# Altium integrated library TIDA-01415.IntLib: 74 symbols (part 1 of 2)
Pins are listed as number, name and electrical type; pins without a type are passive.

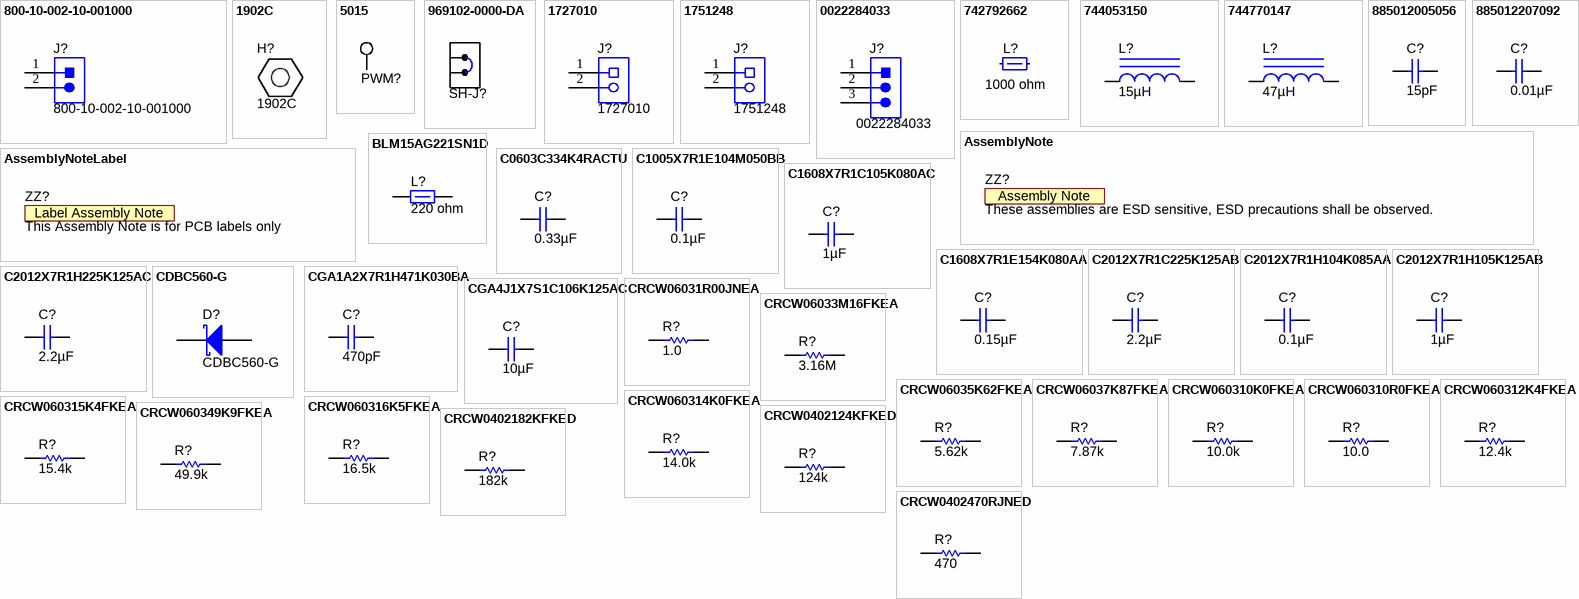
[diagram p0: symbols 800-10-002-10-001000 to CRCW0402470RJNED]

## 800-10-002-10-001000
designator J?
Header, 100mil, 2x1, TH; Manufacturer: Mill-Max; SymbolCreator: a0412235; SymbolVersion: 2013-10-31; PartNumber: 800-10-002-10-001000; PackageReference: Header, 2x1, 100mil, TH; ClassName: Header; CompType: Header; RoHS: Y; MountType: TH; ComponentLink1Description: Datasheet URL; ComponentLink1URL: http://www.mill-max.com/assets/pdfs/054.PDF; Publisher: Texas Instruments; LatestRevisionDate: 2017-02-06; Supplier 1: Digi-Key; Supplier Part Number 1: ED7202-ND
footprint Mill-Max_800-10-002-10-001000
footprint Mill-Max_800-10-002-10-001000_Socket
pins: 1, 2
1 alternate drawing of the same symbol

## 1902C
designator H?
Standoff, Hex, 0.5"L #4-40 Nylon; Manufacturer: Keystone; CompType: Hardware; MountType: N/A; RoHS: Y; PartNumber: 1902C; PackageReference: Standoff; ComponentLink1Description: Datasheet Link; ComponentLink1URL: http://www.keyelco.com/pdfs/M55-prod31.pdf; Alternate Manufacturer: -; Alternate PartNumber: -; LatestRevisionDate: 2012-06-27; LatestRevisionNote: Initial Version; Publisher: Texas Instruments; Supplier 1: Digi-Key; Supplier Part Number 1: 1902CK-ND
footprint Keystone_1902C

## 5015
designator PWM?  (value not drawn)
Test Point, Miniature, SMT; Manufacturer: Keystone; CompType: Test Point Loop; SymbolVersion: 2008-07-10; PartNumber: 5015; PackageReference: Testpoint_Keystone_Miniature; RoHS: Y; MountType: SMT; ComponentLink1Description: Datasheet URL; ComponentLink1URL: http://www.keyelco.com/userAssets/store/files/5015.PDF; Publisher: Texas Instruments; LatestRevisionDate: 2017-01-19; Supplier 1: Digi-Key; Supplier Part Number 1: 36-5015TR-ND; Supplier 2: Mouser; Supplier Part Number 2: 534-5015
footprint Testpoint_Keystone_Miniature
pins: 1

## 969102-0000-DA
designator SH-J?  (value not drawn)
Shunt, 100mil, Gold plated, Black; Manufacturer: 3M; Alternate Manufacturer: Samtec; Alternate PartNumber: SNT-100-BK-G; Value: 1x2; Note: You can "mate" this to a header by matching the designator.  i.e. use SH-J3 for header J3; ClassName: Shunt; CompType: Shunt; PartNumber: 969102-0000-DA; RoHS: Y; PackageReference: Shunt; MountType: N/A; ComponentLink1Description: Datasheet Link; ComponentLink1URL: http://multimedia.3m.com/mws/mediawebserver?66666UuZjcFSLXTtNxTElXf6EVuQEcuZgVs6EVs6E666666--; Publisher: Texas Instruments; LatestRevisionDate: 2017-02-01; Supplier 1: Digi-Key; Supplier Part Number 1: 3M9580-ND; Supplier 2: Newark; Supplier 3: Mouser; Supplier Part Number 3: 517-9691020000DA
footprint SNT-100-BK-G

## 1727010
designator J?
Conn Term Block, 2POS, 3.81mm, TH; Manufacturer: Phoenix Contact; SymbolCreator: a0412235; CompType: Terminal Block; SymbolVersion: 2013-09-04; PartNumber: 1727010; PackageReference: 2POS Terminal Block; RoHS: Y; MountType: TH; ComponentLink1Description: Datasheet URL; ComponentLink1URL: http://eshop.phoenixcontact.com/phoenix/pdf.do?UID=1727010&general=usen; Publisher: Texas Instruments; LatestRevisionDate: 2017-01-19; Supplier 1: Digi-Key; Supplier Part Number 1: 277-1947-ND
footprint PhoenixConact_1727010
pins: 1, 2

## 1751248
designator J?
Conn Term Block, 2POS, 3.5mm, TH; Manufacturer: Phoenix Contact; SymbolCreator: a0412235; CompType: Terminal Block; SymbolVersion: 2013-09-04; PartNumber: 1751248; PackageReference: 11x8.5x7.3mm; RoHS: Y; MountType: TH; ComponentLink1Description: Datasheet URL; ComponentLink1URL: https://sps06.itg.ti.com/sites/KMS/crossdivteams/altium/docs/ComponentDatasheets/PhoenixContact_1751248.pdf; Publisher: Texas Instruments; LatestRevisionDate: 2016-09-28; Supplier 1: Digi-Key; Supplier Part Number 1: 277-5719-ND; Supplier 2: Mouser; Supplier Part Number 2: 651-1751248
footprint CONN_1751248
pins: 1, 2

## 0022284033
designator J?
Header, 2.54mm, 3x1, Tin, TH; Manufacturer: Molex; SymbolCreator: a0799628; Pitch_mm: 2.54; Gender: Male; Shrouded: N; Row_Count: 1; Current_A: 4; Voltage_V: 250; Cert_UL: Y; SymbolVersion: 2013-03-28; PartNumber: 0022284033; PackageReference: Header, 2.54mm, 3x1, TH; ClassName: Header; CompType: Header; RoHS: Y; MountType: TH; ComponentLink1Description: Datasheet URL; ComponentLink1URL: http://www.molex.com/pdm_docs/sd/022284033_sd.pdf; Orientation: Vertical; PinCount: 3; ContactFinish: Tin; Color: Black; Publisher: Texas Instruments; LatestRevisionDate: 2016-10-04; Supplier 1: Digi-Key; Supplier Part Number 1: WM50016-03-ND
footprint Molex_0022284033
pins: 1, 2, 3
3 alternate drawings of the same symbol

## 742792662
designator L?  value 1000 ohm  (hidden comment: 742792662)
Ferrite Bead, 1000 ohm @ 100 MHz, 0.6 A, 0603; Manufacturer: Wurth Elektronik; Imax_A: 0.6; DCR_ohm: 0.3; Value1: 0.3 ohm; Value2: 0.6A; ZTyp@100MHz_Ohm: 1000; CompType: Ferrite Bead; SymbolVersion: 2009-06-02; PartNumber: 742792662; MountType: SMT; PackageReference: 0603; Published: 2014-04-30; Publisher: Texas Instruments; LatestRevisionDate: 2016-10-02; ComponentLink1Description: Datasheet link; ComponentLink1URL: http://katalog.we-online.de/pbs/datasheet/742792662.pdf; RoHS: Y; Supplier 1: Digi-Key; Supplier Part Number 1: 732-4670-1-ND; Supplier 2: Mouser; Supplier Part Number 2: 710-742792662
footprint 0603
footprint 0603M
footprint 0603L
footprint 0603_HV
footprint 0603S
pins: 1, 2

## 744053150
designator L?  ValueDisplayed: 15µH  (hidden comment: 744053150)
Inductor, Shielded Drum Core, Ferrite, 15 µH, 1.15 A, 0.07 ohm, SMD; Manufacturer: Wurth Elektronik; Value: 15uH; Ind_H: 15.0E-6; Imax_A: 1.15; Irms: 1.38A @ 30C rise; Isat: 1.15A @ 35% inductance drop; DCR_ohm: 0.07; Value2: 1.15A; SizeAreaWB_mm2: 60.84; SizeArea_mm2: 33.64; SizeX_mm: 5.8; SizeZ_mm: 2.8; AEC Category: Q200; SymbolVersion: 2008-07-23; CompType: Inductor; PartNumber: 744053150; Value1: 0.07 ohm; Technology: Shielded Drum Core; MountType: SMT; Material: Ferrite; PackageReference: WE-TPC-LH; Published: 2008-06-26; Publisher: Texas Instruments; LatestRevisionDate: 2017-02-06; ComponentLink1Description: Datasheet link; ComponentLink1URL: http://www.we-online.com/eisos/pdf/744053150.pdf; RoHS: Y; SizeY_mm: 5.8; Supplier 1: Digi-Key; Supplier Part Number 1: 732-1045-1-ND; Supplier 2: Mouser; Supplier Part Number 2: 710-744053150; AEC Qualified: ?
signal-integrity model Inductor
simulation model Inductor
footprint WE-TPC-LH
pins: 1, 2

## 744770147
designator L?  ValueDisplayed: 47µH  (hidden comment: 744770147)
Inductor, Shielded Drum Core, Ferrite, 47 µH, 2.7 A, 0.076 ohm, SMD; Manufacturer: Wurth Elektronik; Value: 47uH; Ind_H: 47.0E-6; Imax_A: 2.7; Irms: 2.7A @ 40C rise; Isat: 3A @ 10% inductance drop; DCR_ohm: 0.076; Value2: 2.7A; SizeAreaWB_mm2: 196; SizeArea_mm2: 144; SizeX_mm: 12; SizeZ_mm: 8; AEC Category: Q200; SymbolVersion: 2008-07-23; CompType: Inductor; PartNumber: 744770147; Value1: 0.076 ohm; Technology: Shielded Drum Core; MountType: SMT; Material: Ferrite; PackageReference: SMD; Published: 2008-06-26; Publisher: Texas Instruments; LatestRevisionDate: 2017-02-06; ComponentLink1Description: Datasheet link; ComponentLink1URL: http://katalog.we-online.de/pbs/datasheet/744770147.pdf; RoHS: Y; SizeY_mm: 12; Supplier 1: Digi-Key; Supplier Part Number 1: 732-1231-1-ND; Supplier 2: Mouser; Supplier Part Number 2: 710-744770147; Supplier 3: Farnell; Supplier Part Number 3: 1635928; AEC Qualified: ?
signal-integrity model Inductor
simulation model Inductor
footprint WE-PD_1280
pins: 1, 2

## 885012005056
designator C?  ValueDisplayed: 15pF  (hidden comment: 885012005056)
CAP, CERM, 15 pF, 50 V, +/- 5%, C0G/NP0, 0402; Manufacturer: Wurth Elektronik; Polarized: N; CompType: Capacitor; Value: 15pF; U/M: EA; Cap_F: 0.000000000015; Tolerance_%: 5; Value1: Unknown; VDC_V: 50; Value2: 50V; TaMin_C: -55; TaMax_C: 125; Cap_Case: 0402; SizeArea_mm2: 0.5; SizeAreaWB_mm2: 3; SizeX_mm: 1; SizeZ_mm: 0.6; AEC Category: Q200; SymbolVersion: 2008-07-09; PartNumber: 885012005056; PackageReference: 0402; RoHS: Y; MountType: SMT; Technology: Ceramic; TempCo: C0G/NP0; SizeY_mm: 0.5; Published: 2008-06-19; Publisher: Texas Instruments; LatestRevisionDate: 2017-01-30; ComponentLink1Description: Datasheet link; ComponentLink1URL: http://katalog.we-online.de/pbs/datasheet/885012005056.pdf; Supplier 1: Mouser; Supplier Part Number 1: 710-885012005056; AEC Qualified: N; AEC Grade: N/A
signal-integrity model Cap
simulation model Cap
footprint 0402
footprint 0402M
footprint 0402L
footprint 0402S
pins: 1, 2

## 885012207092
designator C?  ValueDisplayed: 0.01µF  (hidden comment: 885012207092)
CAP, CERM, 0.01 µF, 50 V, +/- 10%, X7R, 0805; Manufacturer: Wurth Elektronik; Polarized: N; CompType: Capacitor; Value: 0.01uF; U/M: EA; Cap_F: 0.00000001; Tolerance_%: 10; Value1: Unknown; VDC_V: 50; Value2: 50V; TaMin_C: -55; TaMax_C: 125; Cap_Case: 0805; SizeArea_mm2: 2.5; SizeAreaWB_mm2: 6.75; SizeX_mm: 2; SizeY_mm: 1.25; SizeZ_mm: 1.45; AEC Category: Q200; SymbolVersion: 2008-07-09; PartNumber: 885012207092; PackageReference: 0805; RoHS: Y; MountType: SMT; Technology: Ceramic; TempCo: X7R; Published: 2008-06-19; Publisher: Texas Instruments; LatestRevisionDate: 2017-01-30; ComponentLink1Description: Datasheet link; ComponentLink1URL: http://katalog.we-online.de/pbs/datasheet/885012207092.pdf; Supplier 1: Digi-Key; Supplier Part Number 1: 732-8074-1-ND; Supplier 2: Mouser; Supplier Part Number 2: 710-885012207092; AEC Qualified: N; AEC Grade: N/A
signal-integrity model Cap
simulation model Cap
footprint 0805_HV
footprint 0805_HV1
footprint 0805
footprint 0805M
footprint 0805L
pins: 1, 2

## AssemblyNote
designator ZZ?, comment These assemblies are ESD sensitive, ESD precautions shall be observed.  (no BOM)
SymbolCreator: codlsc; CompType: AssemblyNote; SymbolVersion: 2010-05-18; ClassName: AssemblyNote; Publisher: Texas Instruments; LatestRevisionDate: 2012-06-14; LatestRevisionNote: Initial Version; Alternate Manufacturer: -; Alternate PartNumber: -
footprint AssemblyNote
text: Assembly Note

## AssemblyNoteLabel
designator ZZ?, comment This Assembly Note is for PCB labels only  (no BOM)
SymbolCreator: a0412235; SymbolVersion: 2012-06-14; CompType: AssemblyNote; ClassName: AssemblyNote; Publisher: Texas Instruments; LatestRevisionDate: 2012-07-31; LatestRevisionNote: Initial Version; Alternate Manufacturer: -; Alternate PartNumber: -
footprint AssemblyNoteLabel
text: Label Assembly Note

## BLM15AG221SN1D
designator L?  ValueDisplayed: 220 ohm  (hidden comment: BLM15AG221SN1D)
Ferrite Bead, 220 ohm @ 100 MHz, 0.45 A, 0402; Manufacturer: MuRata; Value: 220 ohm; Imax_A: 0.45; DCR_ohm: 0.29; Value1: 0.29 ohm; Value2: 0.45A; SizeAreaWB_mm2: 3; SizeArea_mm2: 0.5; SizeX_mm: 1; SizeZ_mm: 0.6; ZTyp@100MHz_Ohm: 220; SymbolVersion: 2017-01-06; PartNumber: BLM15AG221SN1D; CompType: Ferrite Bead; MountType: SMT; PackageReference: 0402; SizeY_mm: 0.5; Published: 2014-04-30; Publisher: Texas Instruments; LatestRevisionDate: 2017-01-26; ComponentLink1Description: Datasheet link; ComponentLink1URL: http://search.murata.co.jp/Ceramy/image/img/PDF/ENG/L0110S0100BLM15AG_SN.pdf; RoHS: Y; Supplier 1: Digi-Key; Supplier Part Number 1: 490-5178-1-ND; Supplier 2: Newark; Supplier Part Number 2: 73M9024; Supplier 3: Mouser; Supplier Part Number 3: 81-BLM15AG221SN1D
footprint 0402
footprint 0402M
footprint 0402L
footprint 0402S
pins: 1, 2

## C0603C334K4RACTU
designator C?  ValueDisplayed: 0.33µF  (hidden comment: C0603C334K4RACTU)
CAP, CERM, 0.33 µF, 16 V, +/- 10%, X7R, 0603; Manufacturer: Kemet; Polarized: N; CompType: Capacitor; Value: 0.33uF; U/M: EA; Cap_F: 0.00000033; Tolerance_%: 10; Value1: Unknown; VDC_V: 16; Value2: 16V; TaMin_C: -55; TaMax_C: 125; Cap_Case: 0603; SizeArea_mm2: 1.28; SizeAreaWB_mm2: 4.68; SizeX_mm: 1.6; SizeY_mm: 0.8; SizeZ_mm: 1; AEC Category: Q200; SymbolVersion: 2008-07-09; PartNumber: C0603C334K4RACTU; PackageReference: 0603; RoHS: Y; MountType: SMT; Technology: Ceramic; TempCo: X7R; Published: 2008-06-19; Publisher: Texas Instruments; LatestRevisionDate: 2016-10-05; ComponentLink1Description: Datasheet link; ComponentLink1URL: http://www.kemet.com/kemet/web/homepage/kechome.nsf/vapubfiles/F3102_Y5V.pdf/$file/F3102_Y5V.pdf; Supplier 1: Digi-Key; Supplier Part Number 1: 399-4916-1-ND; Supplier 2: Mouser; Supplier Part Number 2: 80-C0603C334K4R; Supplier 3: Farnell; Supplier Part Number 3: 1414637; AEC Qualified: ?
signal-integrity model Cap
simulation model Cap
footprint 0603
footprint 0603M
footprint 0603L
footprint 0603_HV
footprint 0603S
pins: 1, 2

## C1005X7R1E104M050BB
designator C?  ValueDisplayed: 0.1µF  (hidden comment: C1005X7R1E104M050BB)
CAP, CERM, 0.1 µF, 25 V, +/- 20%, X7R, 0402; Manufacturer: TDK; Polarized: N; CompType: Capacitor; Value: 0.1uF; U/M: EA; Cap_F: 0.0000001; Tolerance_%: 20; Value1: Unknown; VDC_V: 25; Value2: 25V; TaMin_C: -55; TaMax_C: 125; Cap_Case: 0402; SizeArea_mm2: 0.5; SizeAreaWB_mm2: 3; SizeX_mm: 1; SizeZ_mm: 0.6; AEC Category: Q200; SymbolVersion: 2008-07-09; PartNumber: C1005X7R1E104M050BB; PackageReference: 0402; RoHS: Y; MountType: SMT; Technology: Ceramic; TempCo: X7R; SizeY_mm: 0.5; Published: 2008-06-19; Publisher: Texas Instruments; LatestRevisionDate: 2017-02-09; ComponentLink1Description: Datasheet link; ComponentLink1URL: http://product.tdk.com/en/catalog/datasheets/mlcc_commercial_general_en.pdf; Supplier 1: Digi-Key; Supplier Part Number 1: 445-7349-1-ND; Supplier 2: Mouser; Supplier Part Number 2: 810-C1005X7R1E104M; Supplier 3: Farnell; Supplier Part Number 3: 2354087; AEC Qualified: N; AEC Grade: N/A
signal-integrity model Cap
simulation model Cap
footprint 0402
footprint 0402M
footprint 0402L
footprint 0402S
pins: 1, 2

## C1608X7R1C105K080AC
designator C?  ValueDisplayed: 1µF  (hidden comment: C1608X7R1C105K080AC)
CAP, CERM, 1 µF, 16 V, +/- 10%, X7R, 0603; Manufacturer: TDK; Polarized: N; CompType: Capacitor; Value: 1uF; U/M: EA; Cap_F: 0.000001; Tolerance_%: 10; ESR_ohm: 0.0057; Value1: 0.0057 ohm; VDC_V: 16; Value2: 16V; TaMin_C: -55; TaMax_C: 125; Cap_Case: 0603; SizeArea_mm2: 1.28; SizeAreaWB_mm2: 4.68; SizeX_mm: 1.6; SizeY_mm: 0.8; SizeZ_mm: 1; AEC Category: Q200; SymbolVersion: 2008-07-09; PartNumber: C1608X7R1C105K080AC; PackageReference: 0603; RoHS: Y; MountType: SMT; Technology: Ceramic; TempCo: X7R; Published: 2008-06-19; Publisher: Texas Instruments; LatestRevisionDate: 2016-10-05; ComponentLink1Description: Datasheet link; ComponentLink1URL: http://www.tdk.co.jp/tefe02/e412_c.pdf; Supplier 1: Digi-Key; Supplier Part Number 1: 445-1604-1-ND; Supplier 2: Mouser; Supplier Part Number 2: 810-C1608X7R1C105K; Supplier 3: Farnell; Supplier Part Number 3: 1907343; AEC Qualified: ?
signal-integrity model Cap
simulation model Cap
footprint 0603
footprint 0603M
footprint 0603L
footprint 0603_HV
footprint 0603S
pins: 1, 2

## C1608X7R1E154K080AA
designator C?  ValueDisplayed: 0.15µF  (hidden comment: C1608X7R1E154K080AA)
CAP, CERM, 0.15 µF, 25 V, +/- 10%, X7R, 0603; Manufacturer: TDK; Polarized: N; CompType: Capacitor; Value: 0.15uF; U/M: EA; Cap_F: 0.00000015; Tolerance_%: 10; Value1: Unknown; VDC_V: 25; Value2: 25V; TaMin_C: -55; TaMax_C: 125; Cap_Case: 0603; SizeArea_mm2: 1.28; SizeAreaWB_mm2: 4.68; SizeX_mm: 1.6; SizeY_mm: 0.8; SizeZ_mm: 1; AEC Category: Q200; SymbolVersion: 2008-07-09; PartNumber: C1608X7R1E154K080AA; PackageReference: 0603; RoHS: Y; MountType: SMT; Technology: Ceramic; TempCo: X7R; Published: 2008-06-19; Publisher: Texas Instruments; LatestRevisionDate: 2017-02-09; ComponentLink1Description: Datasheet link; ComponentLink1URL: http://product.tdk.com/capacitor/mlcc/en/documents/C1608X7R1E154K080AA.pdf; Supplier 1: Digi-Key; Supplier Part Number 1: 445-5190-1-ND; Supplier 2: Mouser; Supplier Part Number 2: 810-C1608X7R1E154K; AEC Qualified: ?
signal-integrity model Cap
simulation model Cap
footprint 0603
footprint 0603M
footprint 0603L
footprint 0603_HV
footprint 0603S
pins: 1, 2

## C2012X7R1C225K125AB
designator C?  ValueDisplayed: 2.2µF  (hidden comment: C2012X7R1C225K125AB)
CAP, CERM, 2.2 µF, 16 V, +/- 10%, X7R, 0805; Manufacturer: TDK; Polarized: N; CompType: Capacitor; Value: 2.2uF; U/M: EA; Cap_F: 0.0000022; Tolerance_%: 10; ESR_ohm: 0.0049; Value1: 0.0049 ohm; VDC_V: 16; Value2: 16V; TaMin_C: -55; TaMax_C: 125; Cap_Case: 0805; SizeArea_mm2: 2.5; SizeAreaWB_mm2: 6.75; SizeX_mm: 2; SizeY_mm: 1.25; SizeZ_mm: 1.45; AEC Category: Q200; SymbolVersion: 2008-07-09; PartNumber: C2012X7R1C225K125AB; PackageReference: 0805; RoHS: Y; MountType: SMT; Technology: Ceramic; TempCo: X7R; Published: 2008-06-19; Publisher: Texas Instruments; LatestRevisionDate: 2016-10-05; ComponentLink1Description: Datasheet link; ComponentLink1URL: http://www.tdk.co.jp/tefe02/e412_c.pdf; Supplier 1: Digi-Key; Supplier Part Number 1: 445-1420-1-ND; Supplier 2: Mouser; Supplier Part Number 2: 810-C2012X7R1C225K; Supplier 3: Farnell; Supplier Part Number 3: 1907345; AEC Qualified: ?
signal-integrity model Cap
simulation model Cap
footprint 0805_HV
footprint 0805_HV1
footprint 0805
footprint 0805M
footprint 0805L
pins: 1, 2

## C2012X7R1H104K085AA
designator C?  ValueDisplayed: 0.1µF  (hidden comment: C2012X7R1H104K085AA)
CAP, CERM, 0.1 µF, 50 V, +/- 10%, X7R, 0805; Manufacturer: TDK; Polarized: N; CompType: Capacitor; Value: 0.1uF; U/M: EA; Cap_F: 0.0000001; Tolerance_%: 10; ESR_ohm: 0.02619; Value1: 0.02619 ohm; VDC_V: 50; Value2: 50V; IRMS_A: 1.29514; TaMin_C: -55; TaMax_C: 125; Cap_Case: 0805; SizeArea_mm2: 2.5; SizeAreaWB_mm2: 6.75; SizeX_mm: 2; SizeY_mm: 1.25; SizeZ_mm: 1.45; AEC Category: Q200; SymbolVersion: 2008-07-09; PartNumber: C2012X7R1H104K085AA; PackageReference: 0805; RoHS: Y; MountType: SMT; Technology: Ceramic; TempCo: X7R; Published: 2008-06-19; Publisher: Texas Instruments; LatestRevisionDate: 2017-01-30; ComponentLink1Description: Datasheet link; ComponentLink1URL: https://product.tdk.com/en/search/capacitor/ceramic/mlcc/info?part_no=C2012X7R1H104K085AA; Supplier 1: Digi-Key; Supplier Part Number 1: 445-7534-1-ND; Supplier 2: Mouser; Supplier Part Number 2: 810-C2012X7R1H104K085AA; AEC Qualified: N; AEC Grade: N/A
signal-integrity model Cap
simulation model Cap
footprint 0805_HV
footprint 0805_HV1
footprint 0805
footprint 0805M
footprint 0805L
pins: 1, 2

## C2012X7R1H105K125AB
designator C?  ValueDisplayed: 1µF  (hidden comment: C2012X7R1H105K125AB)
CAP, CERM, 1 µF, 50 V, +/- 10%, X7R, 0805; Manufacturer: TDK; Polarized: N; CompType: Capacitor; Value: 1uF; U/M: EA; Cap_F: 0.000001; Tolerance_%: 10; ESR_ohm: 0.008782; Value1: 0.008782 ohm; VDC_V: 50; Value2: 50V; IRMS_A: 2.20488; TaMin_C: -55; TaMax_C: 125; Cap_Case: 0805; SizeArea_mm2: 2.5; SizeAreaWB_mm2: 6.75; SizeX_mm: 2; SizeY_mm: 1.25; SizeZ_mm: 1.45; AEC Category: Q200; SymbolVersion: 2008-07-09; PartNumber: C2012X7R1H105K125AB; PackageReference: 0805; RoHS: Y; MountType: SMT; Technology: Ceramic; TempCo: X7R; Published: 2008-06-19; Publisher: Texas Instruments; LatestRevisionDate: 2017-01-30; ComponentLink1Description: Datasheet link; ComponentLink1URL: https://product.tdk.com/en/search/capacitor/ceramic/mlcc/info?part_no=C2012X7R1H105K125AB; Supplier 1: Digi-Key; Supplier Part Number 1: 445-7547-1-ND; Supplier 2: Mouser; Supplier Part Number 2: 810-C2012X7R1H105K; AEC Qualified: N; AEC Grade: N/A
signal-integrity model Cap
simulation model Cap
footprint 0805_HV
footprint 0805_HV1
footprint 0805
footprint 0805M
footprint 0805L
pins: 1, 2

## C2012X7R1H225K125AC
designator C?  ValueDisplayed: 2.2µF  (hidden comment: C2012X7R1H225K125AC)
CAP, CERM, 2.2 µF, 50 V, +/- 10%, X7R, 0805; Manufacturer: TDK; Polarized: N; CompType: Capacitor; Value: 2.2uF; U/M: EA; Cap_F: 0.0000022; Tolerance_%: 10; ESR_ohm: 0.00366; Value1: 0.00366 ohm; VDC_V: 50; Value2: 50V; IRMS_A: 3.41207; TaMin_C: -55; TaMax_C: 125; Cap_Case: 0805; SizeArea_mm2: 2.5; SizeAreaWB_mm2: 6.75; SizeX_mm: 2; SizeY_mm: 1.25; SizeZ_mm: 1.45; AEC Category: Q200; SymbolVersion: 2008-07-09; PartNumber: C2012X7R1H225K125AC; PackageReference: 0805; RoHS: Y; MountType: SMT; Technology: Ceramic; TempCo: X7R; Published: 2008-06-19; Publisher: Texas Instruments; LatestRevisionDate: 2017-01-30; ComponentLink1Description: Datasheet link; ComponentLink1URL: https://product.tdk.com/en/search/capacitor/ceramic/mlcc/info?part_no=C2012X7R1H225K125AC; Supplier 1: Digi-Key; Supplier Part Number 1: 445-5968-1-ND; AEC Qualified: N; AEC Grade: N/A
signal-integrity model Cap
simulation model Cap
footprint 0805_HV
footprint 0805_HV1
footprint 0805
footprint 0805M
footprint 0805L
pins: 1, 2

## CDBC560-G
designator D?
Diode, Schottky, 60 V, 5 A, SMC; Manufacturer: Comchip Technology; U/M: EA; Vf_V: 0.75; Value: 60V; Value1: 5A; Value2: 0.75V; Io_A: 5; Vr_V: 60; TJmax_C: 125; SizeAreaWB_mm2: 83.2686; SizeArea_mm2: 50.5686; SizeX_mm: 8.13; SizeY_mm: 6.22; SizeZ_mm: 2.6; AEC Category: Q101; CompType: Diode; SymbolVersion: 2008-12-08; PartNumber: CDBC560-G; PackageReference: SMC; MountType: SMT; Type: Schottky; RoHS: Y; Published: 2008-06-26; Publisher: Texas Instruments; LatestRevisionDate: 2016-09-30; ComponentLink1Description: Datasheet link; ComponentLink1URL: http://www.comchip.com.tw/cms/UserFiles/QW-BB012%20CDBC520-G%7E5100-G%20RevC809622.pdf; Supplier 1: Digi-Key; Supplier Part Number 1: 641-1127-1-ND; Supplier 2: Mouser; Supplier Part Number 2: 750-CDBC560-G; AEC Qualified: ?
signal-integrity model Diode
footprint SMC
pins: 1 K, 2 A

## CGA1A2X7R1H471K030BA
designator C?  ValueDisplayed: 470pF  (hidden comment: CGA1A2X7R1H471K030BA)
CAP, CERM, 470 pF, 50 V, +/- 10%, X7R, AEC-Q200 Grade 1, 0201; Manufacturer: TDK; Polarized: N; CompType: Capacitor; Value: 470pF; U/M: EA; Cap_F: 0.00000000047; Tolerance_%: 10; ESR_ohm: 5.54785; Value1: 5.54785 ohm; VDC_V: 50; Value2: 50V; IRMS_A: 0.228855; TaMin_C: -55; TaMax_C: 125; Cap_Case: 0201_033; SizeArea_mm2: 0.18; SizeAreaWB_mm2: 2.08; SizeX_mm: 0.6; SizeY_mm: 0.3; SizeZ_mm: 0.33; AEC Category: Q200; AEC Qualified: Y; AEC Grade: 1; SymbolVersion: 2008-07-09; PartNumber: CGA1A2X7R1H471K030BA; PackageReference: 0201; RoHS: Y; MountType: SMT; Technology: Ceramic; TempCo: X7R; Published: 2008-06-19; Publisher: Texas Instruments; LatestRevisionDate: 2016-10-05; ComponentLink1Description: Datasheet link; ComponentLink1URL: https://product.tdk.com/en/search/capacitor/ceramic/mlcc/info?part_no=CGA1A2X7R1H471K030BA; Supplier 1: Digi-Key; Supplier Part Number 1: 445-12113-1-ND; Supplier 2: Mouser; Supplier Part Number 2: 810-CGA1A2X7R1H471K030BA
signal-integrity model Cap
simulation model Cap
footprint 0201_033
footprint 0201_033M
footprint 0201_033L
pins: 1, 2

## CGA4J1X7S1C106K125AC
designator C?  ValueDisplayed: 10µF  (hidden comment: CGA4J1X7S1C106K125AC)
CAP, CERM, 10 µF, 16 V, +/- 10%, X7S, AEC-Q200 Grade 1, 0805; Manufacturer: TDK; Polarized: N; CompType: Capacitor; Value: 10uF; U/M: EA; Cap_F: 0.00001; Tolerance_%: 10; Value1: Unknown; VDC_V: 16; Value2: 16V; TaMin_C: -55; TaMax_C: 125; Cap_Case: 0805; SizeArea_mm2: 2.5; SizeAreaWB_mm2: 6.75; SizeX_mm: 2; SizeY_mm: 1.25; SizeZ_mm: 1.45; AEC Category: Q200; AEC Qualified: Y; AEC Grade: 1; SymbolVersion: 2008-07-09; PartNumber: CGA4J1X7S1C106K125AC; PackageReference: 0805; RoHS: Y; MountType: SMT; Technology: Ceramic; TempCo: X7S; Published: 2008-06-19; Publisher: Texas Instruments; LatestRevisionDate: 2017-01-30; ComponentLink1Description: Datasheet link; ComponentLink1URL: https://product.tdk.com/info/en/catalog/datasheets/mlcc_automotive_general_en.pdf; Supplier 1: Digi-Key; Supplier Part Number 1: 445-16110-1-ND; Supplier 2: Mouser; Supplier Part Number 2: 810-CGA4J1X7S1C106KC; Supplier 3: Newark; Supplier Part Number 3: 29X4687
signal-integrity model Cap
simulation model Cap
footprint 0805_HV
footprint 0805_HV1
footprint 0805
footprint 0805M
footprint 0805L
pins: 1, 2

## CRCW06031R00JNEA
designator R?  ValueDisplayed: 1.0  (hidden comment: CRCW06031R00JNEA)
RES, 1.0, 5%, 0.1 W, 0603; Manufacturer: Vishay-Dale; CompType: Resistor; Value: 1.0; Res_ohm: 1; Value_Code: 1R00; Tolerance_%: 5; Power_W: 0.1; Value2: 0.1W; VDC_V: 75; TempCo: 200 ppm/C; SizeArea_mm2: 1.28; SizeX_mm: 1.6; SizeY_mm: 0.8; EIA_Code: E24; U/M: EA; AEC Category: Q200; SymbolVersion: 2009-05-29; PartNumber: CRCW06031R00JNEA; PackageReference: 0603; RoHS: Y; Value1: 5%; MountType: SMT; Technology: Thick Film; SizeZ_mm: 1; Published: 2008-06-26; Publisher: Texas Instruments; LatestRevisionDate: 2016-10-03; ComponentLink1Description: Datasheet link; ComponentLink1URL: http://www.vishay.com/docs/20035/dcrcwe3.pdf; Supplier 1: Digi-Key; Supplier Part Number 1: 541-1.0GCT-ND; Supplier 2: Mouser; Supplier Part Number 2: 71-CRCW0603J-1-E3; Supplier 3: Farnell; Supplier Part Number 3: 1514709; AEC Qualified: ?
signal-integrity model Resistor
simulation model Resistor
footprint 0603
footprint 0603M
footprint 0603L
footprint 0603_HV
footprint 0603S
pins: 1, 2

## CRCW06033M16FKEA
designator R?  ValueDisplayed: 3.16M  (hidden comment: CRCW06033M16FKEA)
RES, 3.16 M, 1%, 0.1 W, 0603; Manufacturer: Vishay-Dale; CompType: Resistor; Value: 3.16Meg; Res_ohm: 3160000; Value_Code: 3M16; Tolerance_%: 1; Power_W: 0.1; Value2: 0.1W; VDC_V: 75; TempCo: 100 ppm/C; SizeArea_mm2: 1.28; SizeX_mm: 1.6; SizeY_mm: 0.8; EIA_Code: E96; U/M: EA; AEC Category: Q200; SymbolVersion: 2009-05-29; PartNumber: CRCW06033M16FKEA; PackageReference: 0603; RoHS: Y; Value1: 1%; MountType: SMT; Technology: Thick Film; SizeZ_mm: 1; Published: 2008-06-26; Publisher: Texas Instruments; LatestRevisionDate: 2016-10-03; ComponentLink1Description: Datasheet link; ComponentLink1URL: http://www.vishay.com/docs/20035/dcrcwe3.pdf; Supplier 1: Digi-Key; Supplier Part Number 1: 541-3.16MHCT-ND; Supplier 2: Mouser; Supplier Part Number 2: 71-CRCW06033M16FKEA; Supplier 3: Farnell; Supplier Part Number 3: 1570736; AEC Qualified: ?
signal-integrity model Resistor
simulation model Resistor
footprint 0603
footprint 0603M
footprint 0603L
footprint 0603_HV
footprint 0603S
pins: 1, 2

## CRCW06035K62FKEA
designator R?  ValueDisplayed: 5.62k  (hidden comment: CRCW06035K62FKEA)
RES, 5.62 k, 1%, 0.1 W, 0603; Manufacturer: Vishay-Dale; CompType: Resistor; Value: 5.62k; Res_ohm: 5620; Value_Code: 5k62; Tolerance_%: 1; Power_W: 0.1; Value2: 0.1W; VDC_V: 75; TempCo: 100 ppm/C; SizeArea_mm2: 1.28; SizeX_mm: 1.6; SizeY_mm: 0.8; EIA_Code: E96; U/M: EA; AEC Category: Q200; SymbolVersion: 2009-05-29; PartNumber: CRCW06035K62FKEA; PackageReference: 0603; RoHS: Y; Value1: 1%; MountType: SMT; Technology: Thick Film; SizeZ_mm: 1; Published: 2008-06-26; Publisher: Texas Instruments; LatestRevisionDate: 2017-01-27; ComponentLink1Description: Datasheet link; ComponentLink1URL: http://www.vishay.com/docs/20035/dcrcwe3.pdf; Supplier 1: Digi-Key; Supplier Part Number 1: 541-5.62KHCT-ND; Supplier 2: Newark; Supplier Part Number 2: 52K8579; Supplier 3: Mouser; Supplier Part Number 3: 71-CRCW0603-5.62K-E3; AEC Qualified: ?
signal-integrity model Resistor
simulation model Resistor
footprint 0603
footprint 0603M
footprint 0603L
footprint 0603_HV
footprint 0603S
pins: 1, 2

## CRCW06037K87FKEA
designator R?  ValueDisplayed: 7.87k  (hidden comment: CRCW06037K87FKEA)
RES, 7.87 k, 1%, 0.1 W, 0603; Manufacturer: Vishay-Dale; CompType: Resistor; Value: 7.87k; Res_ohm: 7870; Value_Code: 7k87; Tolerance_%: 1; Power_W: 0.1; Value2: 0.1W; VDC_V: 75; TempCo: 100 ppm/C; SizeArea_mm2: 1.28; SizeX_mm: 1.6; SizeY_mm: 0.8; EIA_Code: E96; U/M: EA; AEC Category: Q200; SymbolVersion: 2009-05-29; PartNumber: CRCW06037K87FKEA; PackageReference: 0603; RoHS: Y; Value1: 1%; MountType: SMT; Technology: Thick Film; SizeZ_mm: 1; Published: 2008-06-26; Publisher: Texas Instruments; LatestRevisionDate: 2017-01-27; ComponentLink1Description: Datasheet link; ComponentLink1URL: http://www.vishay.com/docs/20035/dcrcwe3.pdf; Supplier 1: Digi-Key; Supplier Part Number 1: 541-7.87KHCT-ND; Supplier 2: Newark; Supplier Part Number 2: 52K8698; Supplier 3: Mouser; Supplier Part Number 3: 71-CRCW0603-7.87K-E3; AEC Qualified: ?
signal-integrity model Resistor
simulation model Resistor
footprint 0603
footprint 0603M
footprint 0603L
footprint 0603_HV
footprint 0603S
pins: 1, 2

## CRCW060310K0FKEA
designator R?  ValueDisplayed: 10.0k  (hidden comment: CRCW060310K0FKEA)
RES, 10.0 k, 1%, 0.1 W, 0603; Manufacturer: Vishay-Dale; CompType: Resistor; Value: 10.0k; Res_ohm: 10000; Value_Code: 10k0; Tolerance_%: 1; Power_W: 0.1; Value2: 0.1W; VDC_V: 75; TempCo: 100 ppm/C; SizeArea_mm2: 1.28; SizeX_mm: 1.6; SizeY_mm: 0.8; EIA_Code: E96; U/M: EA; AEC Category: Q200; SymbolVersion: 2009-05-29; PartNumber: CRCW060310K0FKEA; PackageReference: 0603; RoHS: Y; Value1: 1%; MountType: SMT; Technology: Thick Film; SizeZ_mm: 1; Published: 2008-06-26; Publisher: Texas Instruments; LatestRevisionDate: 2017-01-27; ComponentLink1Description: Datasheet link; ComponentLink1URL: http://www.vishay.com/docs/20035/dcrcwe3.pdf; Supplier 1: Digi-Key; Supplier Part Number 1: 541-10.0KHCT-ND; Supplier 2: Newark; Supplier Part Number 2: 52K8062; Supplier 3: Mouser; Supplier Part Number 3: 71-CRCW0603-10K-E3; AEC Qualified: ?
signal-integrity model Resistor
simulation model Resistor
footprint 0603
footprint 0603M
footprint 0603L
footprint 0603_HV
footprint 0603S
pins: 1, 2

## CRCW060310R0FKEA
designator R?  ValueDisplayed: 10.0  (hidden comment: CRCW060310R0FKEA)
RES, 10.0, 1%, 0.1 W, 0603; Manufacturer: Vishay-Dale; CompType: Resistor; Value: 10.0; Res_ohm: 10; Value_Code: 10R0; Tolerance_%: 1; Power_W: 0.1; Value2: 0.1W; VDC_V: 75; TempCo: 100 ppm/C; SizeArea_mm2: 1.28; SizeX_mm: 1.6; SizeY_mm: 0.8; EIA_Code: E96; U/M: EA; AEC Category: Q200; SymbolVersion: 2009-05-29; PartNumber: CRCW060310R0FKEA; PackageReference: 0603; RoHS: Y; Value1: 1%; MountType: SMT; Technology: Thick Film; SizeZ_mm: 1; Published: 2008-06-26; Publisher: Texas Instruments; LatestRevisionDate: 2017-01-27; ComponentLink1Description: Datasheet link; ComponentLink1URL: http://www.vishay.com/docs/20035/dcrcwe3.pdf; Supplier 1: Digi-Key; Supplier Part Number 1: 541-10.0HCT-ND; Supplier 2: Newark; Supplier Part Number 2: 52K8073; Supplier 3: Mouser; Supplier Part Number 3: 71-CRCW0603-10-E3; AEC Qualified: ?
signal-integrity model Resistor
simulation model Resistor
footprint 0603
footprint 0603M
footprint 0603L
footprint 0603_HV
footprint 0603S
pins: 1, 2

## CRCW060312K4FKEA
designator R?  ValueDisplayed: 12.4k  (hidden comment: CRCW060312K4FKEA)
RES, 12.4 k, 1%, 0.1 W, 0603; Manufacturer: Vishay-Dale; CompType: Resistor; Value: 12.4k; Res_ohm: 12400; Value_Code: 12k4; Tolerance_%: 1; Power_W: 0.1; Value2: 0.1W; VDC_V: 75; TempCo: 100 ppm/C; SizeArea_mm2: 1.28; SizeX_mm: 1.6; SizeY_mm: 0.8; EIA_Code: E96; U/M: EA; AEC Category: Q200; SymbolVersion: 2009-05-29; PartNumber: CRCW060312K4FKEA; PackageReference: 0603; RoHS: Y; Value1: 1%; MountType: SMT; Technology: Thick Film; SizeZ_mm: 1; Published: 2008-06-26; Publisher: Texas Instruments; LatestRevisionDate: 2017-01-27; ComponentLink1Description: Datasheet link; ComponentLink1URL: http://www.vishay.com/docs/20035/dcrcwe3.pdf; Supplier 1: Digi-Key; Supplier Part Number 1: 541-12.4KHCT-ND; Supplier 2: Newark; Supplier Part Number 2: 52K8106; Supplier 3: Mouser; Supplier Part Number 3: 71-CRCW0603-12.4K-E3; AEC Qualified: ?
signal-integrity model Resistor
simulation model Resistor
footprint 0603
footprint 0603M
footprint 0603L
footprint 0603_HV
footprint 0603S
pins: 1, 2

## CRCW060314K0FKEA
designator R?  ValueDisplayed: 14.0k  (hidden comment: CRCW060314K0FKEA)
RES, 14.0 k, 1%, 0.1 W, 0603; Manufacturer: Vishay-Dale; CompType: Resistor; Value: 14.0k; Res_ohm: 14000; Value_Code: 14k0; Tolerance_%: 1; Power_W: 0.1; Value2: 0.1W; VDC_V: 75; TempCo: 100 ppm/C; SizeArea_mm2: 1.28; SizeX_mm: 1.6; SizeY_mm: 0.8; EIA_Code: E96; U/M: EA; AEC Category: Q200; SymbolVersion: 2009-05-29; PartNumber: CRCW060314K0FKEA; PackageReference: 0603; RoHS: Y; Value1: 1%; MountType: SMT; Technology: Thick Film; SizeZ_mm: 1; Published: 2008-06-26; Publisher: Texas Instruments; LatestRevisionDate: 2017-01-27; ComponentLink1Description: Datasheet link; ComponentLink1URL: http://www.vishay.com/docs/20035/dcrcwe3.pdf; Supplier 1: Digi-Key; Supplier Part Number 1: 541-14.0KHCT-ND; Supplier 2: Newark; Supplier Part Number 2: 52K8133; Supplier 3: Mouser; Supplier Part Number 3: 71-CRCW0603-14K-E3; AEC Qualified: ?
signal-integrity model Resistor
simulation model Resistor
footprint 0603
footprint 0603M
footprint 0603L
footprint 0603_HV
footprint 0603S
pins: 1, 2

## CRCW060315K4FKEA
designator R?  ValueDisplayed: 15.4k  (hidden comment: CRCW060315K4FKEA)
RES, 15.4 k, 1%, 0.1 W, 0603; Manufacturer: Vishay-Dale; CompType: Resistor; Value: 15.4k; Res_ohm: 15400; Value_Code: 15k4; Tolerance_%: 1; Power_W: 0.1; Value2: 0.1W; VDC_V: 75; TempCo: 100 ppm/C; SizeArea_mm2: 1.28; SizeX_mm: 1.6; SizeY_mm: 0.8; EIA_Code: E96; U/M: EA; AEC Category: Q200; SymbolVersion: 2009-05-29; PartNumber: CRCW060315K4FKEA; PackageReference: 0603; RoHS: Y; Value1: 1%; MountType: SMT; Technology: Thick Film; SizeZ_mm: 1; Published: 2008-06-26; Publisher: Texas Instruments; LatestRevisionDate: 2017-01-27; ComponentLink1Description: Datasheet link; ComponentLink1URL: http://www.vishay.com/docs/20035/dcrcwe3.pdf; Supplier 1: Digi-Key; Supplier Part Number 1: 541-15.4KHCT-ND; Supplier 2: Newark; Supplier Part Number 2: 52K8152; Supplier 3: Mouser; Supplier Part Number 3: 71-CRCW0603-15.4K-E3; AEC Qualified: ?
signal-integrity model Resistor
simulation model Resistor
footprint 0603
footprint 0603M
footprint 0603L
footprint 0603_HV
footprint 0603S
pins: 1, 2

## CRCW060316K5FKEA
designator R?  ValueDisplayed: 16.5k  (hidden comment: CRCW060316K5FKEA)
RES, 16.5 k, 1%, 0.1 W, 0603; Manufacturer: Vishay-Dale; CompType: Resistor; Value: 16.5k; Res_ohm: 16500; Value_Code: 16k5; Tolerance_%: 1; Power_W: 0.1; Value2: 0.1W; VDC_V: 75; TempCo: 100 ppm/C; SizeArea_mm2: 1.28; SizeX_mm: 1.6; SizeY_mm: 0.8; EIA_Code: E96; U/M: EA; AEC Category: Q200; SymbolVersion: 2009-05-29; PartNumber: CRCW060316K5FKEA; PackageReference: 0603; RoHS: Y; Value1: 1%; MountType: SMT; Technology: Thick Film; SizeZ_mm: 1; Published: 2008-06-26; Publisher: Texas Instruments; LatestRevisionDate: 2017-01-27; ComponentLink1Description: Datasheet link; ComponentLink1URL: http://www.vishay.com/docs/20035/dcrcwe3.pdf; Supplier 1: Digi-Key; Supplier Part Number 1: 541-16.5KHCT-ND; Supplier 2: Newark; Supplier Part Number 2: 52K8169; Supplier 3: Mouser; Supplier Part Number 3: 71-CRCW0603-16.5K-E3; AEC Qualified: ?
signal-integrity model Resistor
simulation model Resistor
footprint 0603
footprint 0603M
footprint 0603L
footprint 0603_HV
footprint 0603S
pins: 1, 2

## CRCW060349K9FKEA
designator R?  ValueDisplayed: 49.9k  (hidden comment: CRCW060349K9FKEA)
RES, 49.9 k, 1%, 0.1 W, 0603; Manufacturer: Vishay-Dale; CompType: Resistor; Value: 49.9k; Res_ohm: 49900; Value_Code: 49k9; Tolerance_%: 1; Power_W: 0.1; Value2: 0.1W; VDC_V: 75; TempCo: 100 ppm/C; SizeArea_mm2: 1.28; SizeX_mm: 1.6; SizeY_mm: 0.8; EIA_Code: E96; U/M: EA; AEC Category: Q200; SymbolVersion: 2009-05-29; PartNumber: CRCW060349K9FKEA; PackageReference: 0603; RoHS: Y; Value1: 1%; MountType: SMT; Technology: Thick Film; SizeZ_mm: 1; Published: 2008-06-26; Publisher: Texas Instruments; LatestRevisionDate: 2017-01-27; ComponentLink1Description: Datasheet link; ComponentLink1URL: http://www.vishay.com/docs/20035/dcrcwe3.pdf; Supplier 1: Digi-Key; Supplier Part Number 1: 541-49.9KHCT-ND; Supplier 2: Newark; Supplier 3: Mouser; Supplier Part Number 3: 71-CRCW0603-49.9K-E3; AEC Qualified: ?
signal-integrity model Resistor
simulation model Resistor
footprint 0603
footprint 0603M
footprint 0603L
footprint 0603_HV
footprint 0603S
pins: 1, 2

## CRCW0402124KFKED
designator R?  ValueDisplayed: 124k  (hidden comment: CRCW0402124KFKED)
RES, 124 k, 1%, 0.063 W, 0402; Manufacturer: Vishay-Dale; CompType: Resistor; Value: 124k; Res_ohm: 124000; Tolerance_%: 1; Power_W: 0.063; Value2: 0.063W; VDC_V: 50; TempCo: 100 ppm/C; SizeArea_mm2: 0.5; SizeZ_mm: 0.6; EIA_Code: E96; U/M: EA; AEC Category: Q200; SymbolVersion: 2009-05-29; PartNumber: CRCW0402124KFKED; PackageReference: 0402; RoHS: Y; Value_Code: 124k; Value1: 1%; MountType: SMT; Technology: Thick Film; SizeX_mm: 1; SizeY_mm: 0.5; Published: 2008-06-26; Publisher: Texas Instruments; LatestRevisionDate: 2016-10-03; ComponentLink1Description: Datasheet link; ComponentLink1URL: http://www.vishay.com/docs/20035/dcrcwe3.pdf; Supplier 1: Digi-Key; Supplier Part Number 1: 541-124KLCT-ND; Supplier 2: Mouser; Supplier Part Number 2: 71-CRCW0402-124K-E3; Supplier 3: Farnell; Supplier Part Number 3: 1150822; AEC Qualified: ?
signal-integrity model Resistor
simulation model Resistor
footprint 0402
footprint 0402M
footprint 0402L
footprint 0402S
pins: 1, 2

## CRCW0402182KFKED
designator R?  ValueDisplayed: 182k  (hidden comment: CRCW0402182KFKED)
RES, 182 k, 1%, 0.063 W, 0402; Manufacturer: Vishay-Dale; CompType: Resistor; Value: 182k; Res_ohm: 182000; Tolerance_%: 1; Power_W: 0.063; Value2: 0.063W; VDC_V: 50; TempCo: 100 ppm/C; SizeArea_mm2: 0.5; SizeZ_mm: 0.6; EIA_Code: E96; U/M: EA; AEC Category: Q200; SymbolVersion: 2009-05-29; PartNumber: CRCW0402182KFKED; PackageReference: 0402; RoHS: Y; Value_Code: 182k; Value1: 1%; MountType: SMT; Technology: Thick Film; SizeX_mm: 1; SizeY_mm: 0.5; Published: 2008-06-26; Publisher: Texas Instruments; LatestRevisionDate: 2016-10-03; ComponentLink1Description: Datasheet link; ComponentLink1URL: http://www.vishay.com/docs/20035/dcrcwe3.pdf; Supplier 1: Digi-Key; Supplier Part Number 1: 541-182KLCT-ND; Supplier 2: Mouser; Supplier Part Number 2: 71-CRCW0402-182K-E3; Supplier 3: Farnell; Supplier Part Number 3: 1469687; AEC Qualified: ?
signal-integrity model Resistor
simulation model Resistor
footprint 0402
footprint 0402M
footprint 0402L
footprint 0402S
pins: 1, 2

## CRCW0402470RJNED
designator R?  ValueDisplayed: 470  (hidden comment: CRCW0402470RJNED)
RES, 470, 5%, 0.063 W, 0402; Manufacturer: Vishay-Dale; CompType: Resistor; Value: 470; Value_Code: 470R; Tolerance_%: 5; Power_W: 0.063; Value2: 0.063W; VDC_V: 50; TempCo: 200 ppm/C; SizeArea_mm2: 0.5; SizeX_mm: 1; SizeZ_mm: 0.6; EIA_Code: E24; U/M: EA; AEC Category: Q200; SymbolVersion: 2009-05-29; PartNumber: CRCW0402470RJNED; PackageReference: 0402; RoHS: Y; Res_ohm: 470; Value1: 5%; MountType: SMT; Technology: Thick Film; SizeY_mm: 0.5; Published: 2008-06-26; Publisher: Texas Instruments; LatestRevisionDate: 2017-01-28; ComponentLink1Description: Datasheet link; ComponentLink1URL: http://www.vishay.com/docs/20035/dcrcwe3.pdf; Supplier 1: Digi-Key; Supplier Part Number 1: 541-470JCT-ND; Supplier 2: Newark; Supplier Part Number 2: 59M6737; Supplier 3: Mouser; Supplier Part Number 3: 71-CRCW0402J-470-E3; AEC Qualified: ?
signal-integrity model Resistor
simulation model Resistor
footprint 0402
footprint 0402M
footprint 0402L
footprint 0402S
pins: 1, 2

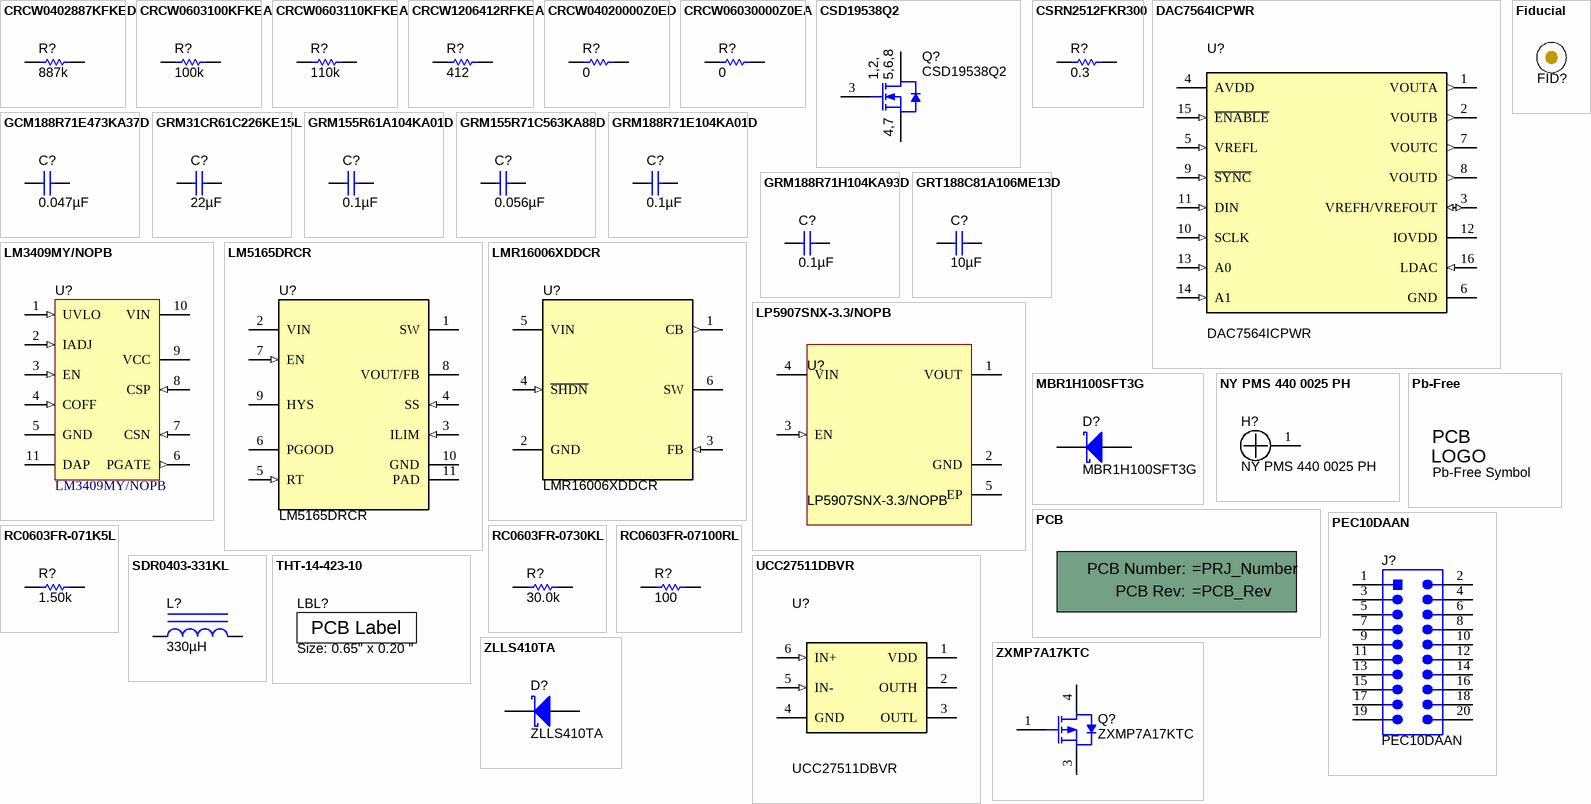
[diagram p1: symbols CRCW0402887KFKED to ZXMP7A17KTC]

## CRCW0402887KFKED
designator R?  ValueDisplayed: 887k  (hidden comment: CRCW0402887KFKED)
RES, 887 k, 1%, 0.063 W, 0402; Manufacturer: Vishay-Dale; CompType: Resistor; Value: 887k; Res_ohm: 887000; Tolerance_%: 1; Power_W: 0.063; Value2: 0.063W; VDC_V: 50; TempCo: 100 ppm/C; SizeArea_mm2: 0.5; SizeZ_mm: 0.6; EIA_Code: E96; U/M: EA; AEC Category: Q200; SymbolVersion: 2009-05-29; PartNumber: CRCW0402887KFKED; PackageReference: 0402; RoHS: Y; Value_Code: 887k; Value1: 1%; MountType: SMT; Technology: Thick Film; SizeX_mm: 1; SizeY_mm: 0.5; Published: 2008-06-26; Publisher: Texas Instruments; LatestRevisionDate: 2016-10-03; ComponentLink1Description: Datasheet link; ComponentLink1URL: http://www.vishay.com/docs/20035/dcrcwe3.pdf; Supplier 1: Digi-Key; Supplier Part Number 1: 541-887KLCT-ND; Supplier 2: Mouser; Supplier Part Number 2: 71-CRCW0402-887K-E3; Supplier 3: Farnell; Supplier Part Number 3: 1151556; AEC Qualified: ?
signal-integrity model Resistor
simulation model Resistor
footprint 0402
footprint 0402M
footprint 0402L
footprint 0402S
pins: 1, 2

## CRCW0603100KFKEA
designator R?  ValueDisplayed: 100k  (hidden comment: CRCW0603100KFKEA)
RES, 100 k, 1%, 0.1 W, 0603; Manufacturer: Vishay-Dale; CompType: Resistor; Value: 100k; Res_ohm: 100000; Tolerance_%: 1; Power_W: 0.1; Value2: 0.1W; VDC_V: 75; TempCo: 100 ppm/C; SizeArea_mm2: 1.28; SizeX_mm: 1.6; SizeY_mm: 0.8; EIA_Code: E96; U/M: EA; AEC Category: Q200; SymbolVersion: 2009-05-29; PartNumber: CRCW0603100KFKEA; PackageReference: 0603; RoHS: Y; Value_Code: 100k; Value1: 1%; MountType: SMT; Technology: Thick Film; SizeZ_mm: 1; Published: 2008-06-26; Publisher: Texas Instruments; LatestRevisionDate: 2017-01-27; ComponentLink1Description: Datasheet link; ComponentLink1URL: http://www.vishay.com/docs/20035/dcrcwe3.pdf; Supplier 1: Digi-Key; Supplier Part Number 1: 541-100KHCT-ND; Supplier 2: Newark; Supplier Part Number 2: 42K3668; Supplier 3: Mouser; Supplier Part Number 3: 71-CRCW0603-100K-E3; AEC Qualified: ?
signal-integrity model Resistor
simulation model Resistor
footprint 0603
footprint 0603M
footprint 0603L
footprint 0603_HV
footprint 0603S
pins: 1, 2

## CRCW0603110KFKEA
designator R?  ValueDisplayed: 110k  (hidden comment: CRCW0603110KFKEA)
RES, 110 k, 1%, 0.1 W, 0603; Manufacturer: Vishay-Dale; CompType: Resistor; Value: 110k; Res_ohm: 110000; Tolerance_%: 1; Power_W: 0.1; Value2: 0.1W; VDC_V: 75; TempCo: 100 ppm/C; SizeArea_mm2: 1.28; SizeX_mm: 1.6; SizeY_mm: 0.8; EIA_Code: E96; U/M: EA; AEC Category: Q200; SymbolVersion: 2009-05-29; PartNumber: CRCW0603110KFKEA; PackageReference: 0603; RoHS: Y; Value_Code: 110k; Value1: 1%; MountType: SMT; Technology: Thick Film; SizeZ_mm: 1; Published: 2008-06-26; Publisher: Texas Instruments; LatestRevisionDate: 2016-10-03; ComponentLink1Description: Datasheet link; ComponentLink1URL: http://www.vishay.com/docs/20035/dcrcwe3.pdf; Supplier 1: Digi-Key; Supplier Part Number 1: 541-110KHCT-ND; Supplier 2: Mouser; Supplier Part Number 2: 71-CRCW0603-110K-E3; Supplier 3: Farnell; Supplier Part Number 3: 1151660; AEC Qualified: ?
signal-integrity model Resistor
simulation model Resistor
footprint 0603
footprint 0603M
footprint 0603L
footprint 0603_HV
footprint 0603S
pins: 1, 2

## CRCW1206412RFKEA
designator R?  ValueDisplayed: 412  (hidden comment: CRCW1206412RFKEA)
RES, 412, 1%, 0.25 W, 1206; Manufacturer: Vishay-Dale; CompType: Resistor; Value: 412; Value_Code: 412R; Tolerance_%: 1; Power_W: 0.25; Value2: 0.25W; VDC_V: 200; TempCo: 100 ppm/C; SizeArea_mm2: 5.12; SizeX_mm: 3.2; SizeY_mm: 1.6; SizeZ_mm: 1.35; EIA_Code: E96; U/M: EA; AEC Category: Q200; SymbolVersion: 2009-05-29; PartNumber: CRCW1206412RFKEA; PackageReference: 1206; RoHS: Y; Res_ohm: 412; Value1: 1%; MountType: SMT; Technology: Thick Film; Published: 2008-06-26; Publisher: Texas Instruments; LatestRevisionDate: 2017-02-04; ComponentLink1Description: Datasheet link; ComponentLink1URL: http://www.vishay.com/docs/20035/dcrcwe3.pdf; Supplier 1: Digi-Key; Supplier Part Number 1: 541-412FCT-ND; Supplier 2: Newark; Supplier Part Number 2: 53K2398; Supplier 3: Mouser; Supplier Part Number 3: 71-CRCW1206412-E3; AEC Qualified: ?
signal-integrity model Resistor
simulation model Resistor
footprint 1206
footprint 1206M
footprint 1206L
pins: 1, 2

## CRCW04020000Z0ED
designator R?  ValueDisplayed: 0  (hidden comment: CRCW04020000Z0ED)
RES, 0, 5%, 0.063 W, 0402; Manufacturer: Vishay-Dale; CompType: Resistor; Value: 0; Value_Code: 0000; Tolerance_%: 5; Power_W: 0.063; Value2: 0.063W; VDC_V: 50; TempCo: 200 ppm/C; SizeArea_mm2: 0.5; SizeX_mm: 1; SizeZ_mm: 0.6; EIA_Code: E24; U/M: EA; AEC Category: Q200; SymbolVersion: 2009-05-29; PartNumber: CRCW04020000Z0ED; PackageReference: 0402; RoHS: Y; Res_ohm: 0; Value1: 5%; MountType: SMT; Technology: Thick Film; SizeY_mm: 0.5; Published: 2008-06-26; Publisher: Texas Instruments; LatestRevisionDate: 2017-01-28; ComponentLink1Description: Datasheet link; ComponentLink1URL: http://www.vishay.com/docs/20035/dcrcwe3.pdf; Supplier 1: Digi-Key; Supplier Part Number 1: 541-0.0JCT-ND; Supplier 2: Newark; Supplier Part Number 2: 52K6543; Supplier 3: Mouser; Supplier Part Number 3: 71-CRCW0402-0-E3; AEC Qualified: ?
signal-integrity model Resistor
simulation model Resistor
footprint 0402
footprint 0402M
footprint 0402L
footprint 0402S
pins: 1, 2

## CRCW06030000Z0EA
designator R?  ValueDisplayed: 0  (hidden comment: CRCW06030000Z0EA)
RES, 0, 5%, 0.1 W, 0603; Manufacturer: Vishay-Dale; CompType: Resistor; Value: 0; Value_Code: 0000; Tolerance_%: 5; Power_W: 0.1; Value2: 0.1W; VDC_V: 75; TempCo: 200 ppm/C; SizeArea_mm2: 1.28; SizeX_mm: 1.6; SizeY_mm: 0.8; SizeZ_mm: 1; EIA_Code: E24; U/M: EA; AEC Category: Q200; SymbolVersion: 2009-05-29; PartNumber: CRCW06030000Z0EA; PackageReference: 0603; RoHS: Y; Res_ohm: 0; Value1: 5%; MountType: SMT; Technology: Thick Film; Published: 2008-06-26; Publisher: Texas Instruments; LatestRevisionDate: 2017-01-27; ComponentLink1Description: Datasheet link; ComponentLink1URL: http://www.vishay.com/docs/20035/dcrcwe3.pdf; Supplier 1: Digi-Key; Supplier Part Number 1: 541-0.0GCT-ND; Supplier 2: Newark; Supplier Part Number 2: 52K8014; Supplier 3: Mouser; Supplier Part Number 3: 71-CRCW0603-0-E3; AEC Qualified: ?
signal-integrity model Resistor
simulation model Resistor
footprint 0603
footprint 0603M
footprint 0603L
footprint 0603_HV
footprint 0603S
pins: 1, 2

## CSD19538Q2
designator Q?
MOSFET, N-CH, 100 V, 4.5 A, DQK0006C (WSON-6); Manufacturer: Texas Instruments; Alternate Manufacturer: None; U/M: EA; ChType: N; Value: 100V; VdsMax_V: 100; Value1: ? ohm; Value2: ? nC; Vgs_V: 20; IdsMax_A: 4.5; SizeAreaWB_mm2: 9; SizeArea_mm2: 4; SizeX_mm: 2; SizeZ_mm: 0.8; AEC Category: Q101; SymbolVersion: 2011-11-14; CompType: MOSFET; PartNumber: CSD19538Q2; PackageReference: DQK0006C; SizeY_mm: 2; RoHS: Y; MountType: SMT; Published: 2008-06-19; Publisher: Texas Instruments; LatestRevisionDate: 2016-10-05; LatestRevisionNote: Added parts.; ComponentLink1Description: Datasheet link; ComponentLink1URL: http://www.ti.com/lit/ds/symlink/csd19538q2.pdf; AEC Qualified: N
footprint DQK0006C
pins: 1 D, 2 D, 3 G, 4 S, 5 D, 6 D, 7 S, 8 D
text: 1,2,; 5,6,8; 4,7

## CSRN2512FKR300
designator R?  ValueDisplayed: 0.3  (hidden comment: CSRN2512FKR300)
RES, 0.3, 1%, 2 W, 2512; Manufacturer: Stackpole Electronics Inc; CompType: Resistor; Value: 0.3; Value_Code: R300; Tolerance_%: 1; Power_W: 2; Value2: 2W; TempCo: 200 ppm/C; SizeArea_mm2: 20.16; SizeX_mm: 6.3; SizeY_mm: 3.2; SizeZ_mm: 0.71; EIA_Code: E96; U/M: EA; AEC Category: Q200; SymbolVersion: 2009-05-29; PartNumber: CSRN2512FKR300; PackageReference: 2512; RoHS: Y; Res_ohm: 0.3; Value1: 1%; MountType: SMT; Technology: Thick Film; Published: 2008-06-26; Publisher: Texas Instruments; LatestRevisionDate: 2017-01-10; ComponentLink1Description: Datasheet link; ComponentLink1URL: http://www.seielect.com/Catalog/SEI-csr.pdf; Supplier 1: Digi-Key; Supplier Part Number 1: CSRN2512FKR300CT-ND; AEC Qualified: ?
signal-integrity model Resistor
simulation model Resistor
footprint 2512
footprint 2512M
footprint 2512L
pins: 1, 2

## DAC7564ICPWR
designator U?
12-Bit, Quad Channel, Ultra-Low Glitch, Voltage Output DAC with 2.5V, 2ppm/degC Internal Reference, PW0016A (TSSOP-16); Manufacturer: Texas Instruments; SymbolCreator: x0208326; SizeArea_mm2: 32; SizeAreaWB_mm2: 58.8; SizeX_mm: 6.4; SizeY_mm: 5; SizeZ_mm: 1.2; CompType: IC; U/M: EA; SymbolVersion: 2013-11-6; PartNumber: DAC7564ICPWR; Alternate PartNumber: DAC7564ICPW; PackageReference: PW0016A; PackageDescription: TSSOP-16; MountType: SMT; ComponentLink1Description: Datasheet Link; ComponentLink1URL: http://www.ti.com/lit/ds/symlink/dac7564.pdf; RoHS: Y; Publisher: Texas Instruments; LatestRevisionDate: 2017-02-06; Alternate Manufacturer: Texas Instruments
footprint PW0016A_N
footprint PW0016A_M
footprint PW0016A_L
pins: 1 VOUTA (out), 2 VOUTB (out), 3 VREFH/VREFOUT (io), 4 AVDD (power), 5 VREFL (in), 6 GND (power), 7 VOUTC (out), 8 VOUTD (out), 9 ~{SYNC} (in), 10 SCLK (in), 11 DIN (in), 12 IOVDD (power), 13 A0 (in), 14 A1 (in), 15 ~{ENABLE} (in), 16 LDAC (in)
1 alternate drawing of the same symbol

## Fiducial
designator FID?  (value not drawn)
Fiducial mark.  There is nothing to buy or mount.; SymbolCreator: codlsc; SymbolVersion: 2009-11-4; CompType: Fiducial; Publisher: Texas Instruments; LatestRevisionDate: 2014-08-01; LatestRevisionNote: Added Alternate PartNumber and Alternate Manufacturer parameters to appropriate components.; Manufacturer: N/A; MountType: N/A; PackageReference: Fiducial; PartNumber: N/A; ClassName: FiducialMark
footprint Fiducial10-30
footprint Fiducial10-20
footprint Fiducial15-30
footprint Fiducial20-40
footprint Fiducial6.4-20

## GCM188R71E473KA37D
designator C?  ValueDisplayed: 0.047µF  (hidden comment: GCM188R71E473KA37D)
CAP, CERM, 0.047 µF, 25 V, +/- 10%, X7R, AEC-Q200 Grade 1, 0603; Manufacturer: MuRata; Polarized: N; CompType: Capacitor; Value: 0.047uF; U/M: EA; Cap_F: 0.000000047; Tolerance_%: 10; Value1: Unknown; VDC_V: 25; Value2: 25V; TaMin_C: -55; TaMax_C: 125; Cap_Case: 0603; SizeArea_mm2: 1.28; SizeAreaWB_mm2: 4.68; SizeX_mm: 1.6; SizeY_mm: 0.8; SizeZ_mm: 1; AEC Category: Q200; AEC Qualified: Y; SymbolVersion: 2008-07-09; PartNumber: GCM188R71E473KA37D; PackageReference: 0603; RoHS: Y; MountType: SMT; Technology: Ceramic; TempCo: X7R; Published: 2008-06-19; Publisher: Texas Instruments; LatestRevisionDate: 2017-01-30; ComponentLink1Description: Datasheet link; ComponentLink1URL: http://psearch.murata.com/capacitor/product/GCM188R71E473KA37%23.pdf; Supplier 1: Digi-Key; Supplier Part Number 1: 490-8018-1-ND; Supplier 2: Mouser; Supplier Part Number 2: 81-GCM188R71E473KA7D; AEC Grade: 1
signal-integrity model Cap
simulation model Cap
footprint 0603
footprint 0603M
footprint 0603L
footprint 0603_HV
footprint 0603S
pins: 1, 2